# Altium footprint library BOOSTXL-DRV8301.PcbLib: 22 footprints (part 1 of 2)
Each footprint in its own frame and in the unit in brackets; x right, y up, seen from the top. Pads: shape width x height; smd on the part's side, far side on the other; paste and mask are expansions set on the pad; w line width, h text height; cw(c..) or ccw(c..) is an arc to the next point about the centre after c.
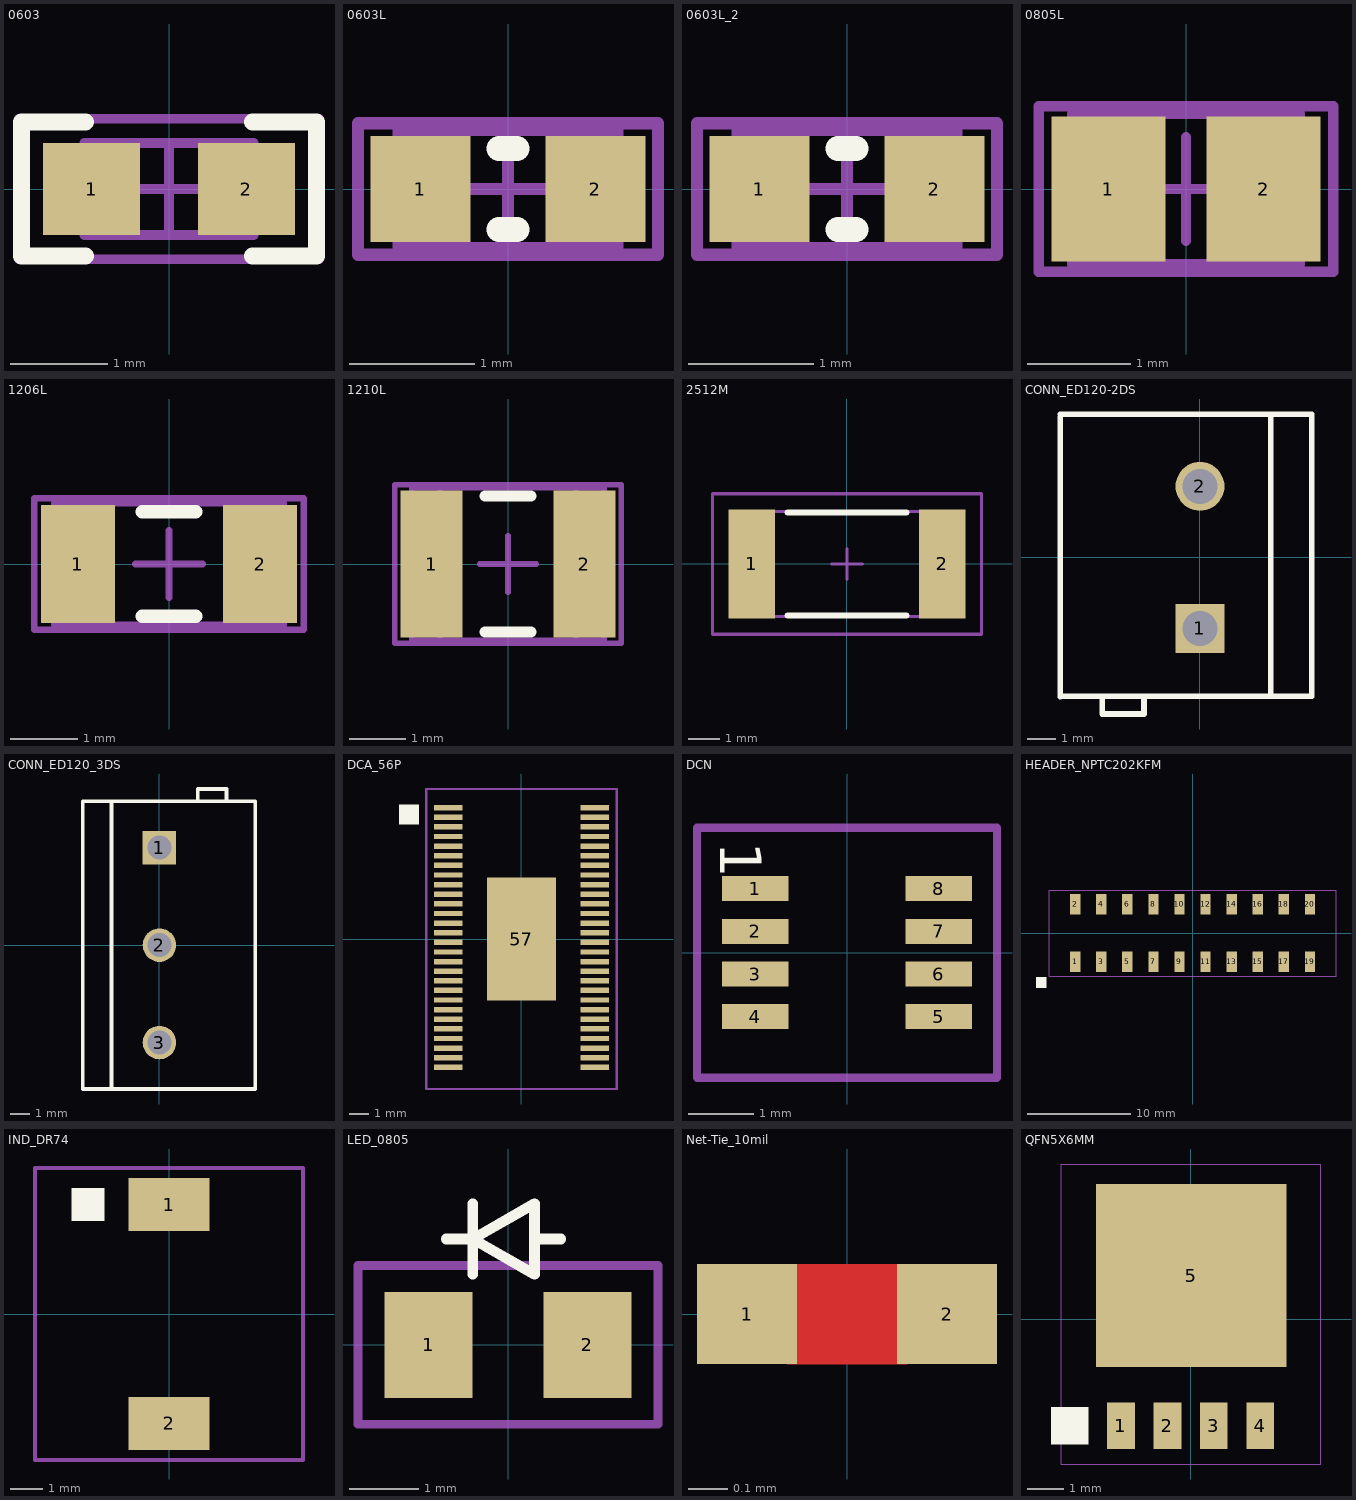
[diagram p0: the footprints below, top view; thin cyan lines are the x and y axes]

## 0603 [mm]
pads (2):
  rect 1x0.95 smd: 1(-0.8,0) 2(0.8,0)
Top Overlay:
  lines w0.178: -0.864,-0.691 -1.524,-0.691 -1.524,0.693 -0.864,0.693 ; 0.864,-0.691 1.524,-0.691 1.524,0.693 0.864,0.693
Mechanical 5:
  lines w0.1: -1.55,-0.725 1.55,-0.725 1.55,0.725 -1.55,0.725 -1.55,-0.725
  text ".Designator" at -1.397,-0.381 h0.76
Mechanical 13:
  lines w0.1: -0.55,-0.475 -0.55,0.475 ; 0.55,-0.475 0.55,0.475 ; -0.875,-0.475 -0.875,0.475 0.875,0.475 0.875,-0.475 -0.875,-0.475
Mechanical 15:
  lines w0.1: -0.475,0 0.475,0 ; 0,-0.475 0,0.475 ; -1.55,-0.725 -1.55,0.725 1.55,0.725 1.55,-0.725 -1.55,-0.725
3D body: height 0.85, standoff 0, extent 0.551,-0.474 0.874,0.474
3D body: height 0.85, standoff 0, extent -0.549,-0.474 0.549,0.474
3D body: height 0.85, standoff 0, extent -0.874,-0.474 -0.551,0.474

## 0603L [mm]
pads (2):
  rect 0.8x0.85 smd: 1(-0.7,0) 2(0.7,0)
Top Overlay:
  lines w0.2: -0.071,-0.325 0.071,-0.325 ; -0.071,0.325 0.071,0.325
Mechanical 5:
  lines w0.1: -1.2,-0.525 1.2,-0.525 1.2,0.525 -1.2,0.525 -1.2,-0.525
  text ".Designator" at -1.05,-0.275 h0.56
Mechanical 13:
  lines w0.1: -0.55,-0.475 -0.55,0.475 ; 0.55,-0.475 0.55,0.475 ; -0.875,-0.475 0.875,-0.475 0.875,0.475 -0.875,0.475 -0.875,-0.475
Mechanical 15:
  lines w0.1: -0.475,0 0.475,0 ; 0,-0.475 0,0.475 ; -1.2,-0.525 -1.2,0.525 1.2,0.525 1.2,-0.525 -1.2,-0.525
3D body: height 0.85, standoff 0, extent -0.874,-0.474 -0.551,0.474
3D body: height 0.85, standoff 0, extent -0.549,-0.474 0.549,0.474
3D body: height 0.85, standoff 0, extent 0.551,-0.474 0.874,0.474

## 0603L_2 [mm]
pads (2):
  rect 0.8x0.85 smd: 1(-0.7,0) 2(0.7,0)
Top Overlay:
  lines w0.2: -0.071,-0.325 0.071,-0.325 ; -0.071,0.325 0.071,0.325
Mechanical 5:
  lines w0.1: -1.2,-0.525 1.2,-0.525 1.2,0.525 -1.2,0.525 -1.2,-0.525
  text ".Designator" at -1.05,-0.275 h0.56
Mechanical 13:
  lines w0.1: -0.55,-0.475 -0.55,0.475 ; 0.55,-0.475 0.55,0.475 ; -0.875,-0.475 0.875,-0.475 0.875,0.475 -0.875,0.475 -0.875,-0.475
Mechanical 15:
  lines w0.1: -0.475,0 0.475,0 ; 0,-0.475 0,0.475 ; -1.2,-0.525 -1.2,0.525 1.2,0.525 1.2,-0.525 -1.2,-0.525
3D body: height 0.85, standoff 0, extent -0.874,-0.474 -0.551,0.474
3D body: height 0.85, standoff 0, extent -0.549,-0.474 0.549,0.474
3D body: height 0.85, standoff 0, extent 0.551,-0.474 0.874,0.474

## 0805L [mm]
pads (2):
  rect 1.1x1.4 smd: 1(-0.75,0) 2(0.75,0)
Mechanical 5:
  lines w0.1: -1.425,-0.8 1.425,-0.8 1.425,0.8 -1.425,0.8 -1.425,-0.8
  text ".Designator" at -1.2,-0.325 h0.64
Mechanical 13:
  lines w0.1: -0.65,-0.725 -0.65,0.725 ; 0.65,-0.725 0.65,0.725 ; -1.1,-0.725 1.1,-0.725 1.1,0.725 -1.1,0.725 -1.1,-0.725
Mechanical 15:
  lines w0.1: -0.5,0 0.5,0 ; 0,-0.5 0,0.5 ; -1.425,-0.8 -1.425,0.8 1.425,0.8 1.425,-0.8 -1.425,-0.8
3D body: height 1.1, standoff 0, extent -1.099,-0.724 -0.651,0.724
3D body: height 1.1, standoff 0, extent -0.649,-0.724 0.649,0.724
3D body: height 1.1, standoff 0, extent 0.651,-0.724 1.099,0.724

## 1206L [mm]
pads (2):
  rect 1.1x1.75 smd: 1(-1.35,0) 2(1.35,0)
Top Overlay:
  lines w0.2: -0.4,-0.775 0.4,-0.775 ; -0.4,0.775 0.4,0.775
Mechanical 5:
  lines w0.1: -1.7,-0.9 -1.7,0.9 1.7,0.9 1.7,-0.9 -1.7,-0.9
  text ".Designator" at -1.475,-0.4 h0.81
Mechanical 13:
  lines w0.1: -1.2,-0.9 -1.2,0.9 ; 1.2,-0.9 1.2,0.9 ; -1.7,-0.9 1.7,-0.9 1.7,0.9 -1.7,0.9 -1.7,-0.9
Mechanical 15:
  lines w0.1: -0.5,0 0.5,0 ; 0,-0.5 0,0.5 ; -2,-0.975 -2,0.975 2,0.975 2,-0.975 -2,-0.975
3D body: height 1.35, standoff 0, extent -1.699,-0.899 -1.201,0.899
3D body: height 1.35, standoff 0, extent -1.199,-0.899 1.199,0.899
3D body: height 1.35, standoff 0, extent 1.201,-0.899 1.699,0.899

## 1210L [mm]
pads (2):
  rect 1.1x2.6 smd: 1(-1.35,0) 2(1.35,0)
Top Overlay:
  lines w0.2: -0.4,-1.2 0.4,-1.2 ; -0.4,1.2 0.4,1.2
Mechanical 5:
  lines w0.1: -1.7,-1.35 -1.7,1.35 1.7,1.35 1.7,-1.35 -1.7,-1.35
  text ".Designator" at -1.4,-0.375 h0.76
Mechanical 13:
  lines w0.1: -1.2,-1.35 -1.2,1.35 ; 1.2,-1.35 1.2,1.35 ; -1.7,-1.35 -1.7,1.35 1.7,1.35 1.7,-1.35 -1.7,-1.35
Mechanical 15:
  lines w0.1: -0.5,0 0.5,0 ; 0,-0.5 0,0.5 ; -2,-1.4 2,-1.4 2,1.4 -2,1.4 -2,-1.4
3D body: height 1.35, standoff 0, extent -1.699,-1.349 -1.201,1.349
3D body: height 1.35, standoff 0, extent -1.199,-1.349 1.199,1.349
3D body: height 1.35, standoff 0, extent 1.201,-1.349 1.699,1.349

## 2512M [mm]
pads (2):
  rect 1.5x3.5 smd: 1(-3.05,0) 2(3.05,0)
Top Overlay:
  lines w0.2: -1.9,-1.65 1.9,-1.65 ; -1.9,1.65 1.9,1.65
Mechanical 5:
  lines w0.1: -3.225,-1.675 3.225,-1.675 3.225,1.675 -3.225,1.675 -3.225,-1.675
  text ".Designator" at -1.85,-0.5 h1.02
Mechanical 13:
  lines w0.1: -2.463,-1.675 -2.463,1.675 ; 2.463,-1.675 2.463,1.675 ; -3.225,-1.675 3.225,-1.675 3.225,1.675 -3.225,1.675 -3.225,-1.675
Mechanical 15:
  lines w0.1: -0.5,0 0.5,0 ; 0,-0.5 0,0.5 ; -4.3,-2.25 4.3,-2.25 4.3,2.25 -4.3,2.25 -4.3,-2.25
3D body: height 0.71, standoff 0, extent -3.224,-1.674 -2.464,1.674
3D body: height 0.71, standoff 0, extent -2.462,-1.674 2.462,1.674
3D body: height 0.71, standoff 0, extent 2.464,-1.674 3.224,1.674

## CONN_ED120-2DS [mm]
pads (2):
  rect 1.75x1.75 hole 1.25: 1(0,-2.54)
  round 1.75 hole 1.25: 2(0,2.54)
Top Overlay:
  lines w0.2: -5,-4.985 -5,5.015 ; -5,-4.96 4,-4.96 ; -5,5.115 4,5.115 4,-4.885 ; -3.5,-4.96 -3.5,-5.6 -2,-5.6 -2,-4.96 ; 2.525,-4.95 2.525,5.05
Mechanical 5:
  lines w0.1: -5,-4.96 4,-4.96 ; -5,-4.885 -5,5.115 4,5.115 4,-4.885 ; -3.5,-4.96 -3.5,-5.6 -2,-5.6 -2,-4.96 ; 2.525,-4.875 2.525,5.125
  text ".Designator" at -2.75,-0.4 h1.02
3D body: height 13, standoff 0, extent -5,-4.985 4,5.115
3D body: height 13.1, standoff -2.5, extent -0.496,-3.039 0.5,-2.041
3D body: height 13.1, standoff -2.5, extent -0.496,2.041 0.5,3.039
3D body: height 5.7, standoff 4.3, extent -0.85,1.846 4.15,3.24
3D body: height 5.7, standoff 4.3, extent -0.875,-3.204 4.125,-1.81
3D body: height 13, standoff 0, extent -3.5,-5.6 -2,-4.925

## CONN_ED120_3DS [mm]
pads (3):
  rect 1.75x1.75 hole 1.25: 1(0,5.08)
  round 1.75 hole 1.25: 2(0,0) 3(0,-5.08)
Top Overlay:
  lines w0.2: -2.5,-7.5 -2.5,7.5 ; 2,7.5 2,8.14 3.5,8.14 3.5,7.5 ; -4,-7.5 5,-7.5 5,7.5 -4,7.5 -4,-7.5
Mechanical 5:
  lines w0.1: -2.5,-7.5 -2.5,7.5 ; 2,7.5 2,8.14 3.5,8.14 3.5,7.5 ; -4,-7.5 -4,7.5 5,7.5 5,-7.5 -4,-7.5
  text ".Designator" at -1.975,1.925 h1.02
3D body: height 12.9, standoff -2.5, extent -0.5,4.581 0.496,5.579
3D body: height 12.9, standoff -2.5, extent -0.5,-0.499 0.496,0.499
3D body: height 6, standoff 4, extent -4.1,-1.054 0.9,0.938
3D body: height 13.1, standoff 12.5, extent -1,-0.998 0.992,0.998
3D body: height 13.1, standoff 12.5, extent -1,4.082 0.992,6.078
3D body: height 6, standoff 4, extent -4.1,4.046 0.9,6.038
3D body: height 13, standoff 0, extent 2,7.54 3.5,8.14
3D body: height 13.1, standoff 12.5, extent -1,-6.071 0.992,-4.075
3D body: height 6, standoff 4, extent -4.125,-6.067 0.875,-4.075
3D body: height 12.9, standoff -2.5, extent -0.5,-5.459 0.496,-4.461
3D body: height 13, standoff 0, extent -4.05,-7.55 5.05,7.55

## DCA_56P [mil]
pads (57):
  rect 58x11 smd mask+2: 1(-150.08,268.98) 2(-150.08,249.3) 3(-150.08,229.61) 4(-150.08,209.91) 5(-150.08,190.21) 6(-150.08,170.51) 7(-150.08,150.81) 8(-150.08,131.11) 9(-150.08,111.41) 10(-150.08,91.71) 11(-150.08,72.01) 12(-150.08,52.31) 13(-150.08,32.61) 14(-150.08,12.91) 15(-150.08,-6.79) 16(-150.08,-26.49) 17(-150.08,-46.19) 18(-150.08,-65.89) 19(-150.08,-85.59) 20(-150.08,-105.29) 21(-150.08,-124.99) 22(-150.08,-144.69) 23(-150.08,-164.39) 24(-150.08,-184.09) 25(-150.08,-203.79) 26(-150.08,-223.49) 27(-150.08,-243.17) 28(-150.08,-262.86) 29(149.92,-262.86) 30(149.92,-243.17) 31(149.92,-223.49) 32(149.92,-203.79) 33(149.92,-184.09) 34(149.92,-164.39) 35(149.92,-144.69) 36(149.92,-124.99) 37(149.92,-105.29) 38(149.92,-85.59) 39(149.92,-65.89) 40(149.92,-46.19) 41(149.92,-26.49) 42(149.92,-6.79) 43(149.92,12.91) 44(149.92,32.61) 45(149.92,52.31) 46(149.92,72.01) 47(149.92,91.71) 48(149.92,111.41) 49(149.92,131.11) 50(149.92,150.81) 51(149.92,170.51) 52(149.92,190.21) 53(149.92,209.91) 54(149.92,229.61) 55(149.92,249.3) 56(149.92,268.98)
  rect 141.73x251.97 smd: 57(0.02,0.01)
Top Overlay:
  region: -250,235 -210,235 -210,275 -250,275
Mechanical 5:
  lines w5: -195.08,-307.09 -195.08,307.09 ; -195,-307.05 195,-307.05 ; -195,307.13 195,307.13 ; 195.08,-307.09 195.08,307.09
  text ".Designator" at -73,-20 h40
  text "*" at -109.45,295.67 h30

## DCN [mil]
pads (8):
  rect 40x15 smd: 1(-55,38.4) 2(-55,12.8) 3(-55,-12.8) 4(-55,-38.4) 5(55,-38.4) 6(55,-12.8) 7(55,12.8) 8(55,38.4)
Top Overlay:
  text "1" at -75.94,66.46 h25
Mechanical 5:
  lines w5: -90,-75 90,-75 90,75 -90,75 -90,-75
  text ".Designator" at -75,-20 h40
  text "*" at -74.94,66.46 h25

## HEADER_NPTC202KFM [mm]
pads (20):
  rect 1x2 smd paste+0.033 mask+0.041: 1(-11.43,-2.807) 2(-11.43,2.807) 3(-8.89,-2.807) 4(-8.89,2.807) 5(-6.35,-2.807) 6(-6.35,2.807) 7(-3.81,-2.807) 8(-3.81,2.807) 9(-1.27,-2.807) 10(-1.27,2.807) 11(1.27,-2.807) 12(1.27,2.807) 13(3.81,-2.807) 14(3.81,2.807) 15(6.35,-2.807) 16(6.35,2.807) 17(8.89,-2.807) 18(8.89,2.807) 19(11.43,-2.807) 20(11.43,2.807)
Top Overlay:
  region: -15.24,-4.318 -15.24,-5.334 -14.224,-5.334 -14.224,-4.318
Mechanical 5:
  lines w0.025: -13.97,-4.191 13.97,-4.191 13.97,4.191 -13.97,4.191 -13.97,-4.191
  text "J4" at 4.275,-0.864 h0.76

## IND_DR74 [mil]
pads (2):
  rect 100x65 smd: 1(0,135) 2(0,-135)
Top Overlay:
  region: -120,115 -80,115 -80,155 -120,155
Mechanical 5:
  lines w5: -165,-180 -165,180 165,180 165,-180 -165,-180
  text ".Designator" at -73,-20 h40
  text "*" at -137.57,131 h30

## LED_0805 [mil]
pads (2):
  rect 50x60 smd: 1(-45,0) 2(45,0)
Top Overlay:
  lines w6: -35,60 -30,60 -20,60 ; -20,40 -20,80 ; 15,60 25,60 30,60 ; -20,60 15,40 15,80 -20,60
Mechanical 5:
  lines w5: -35,60 -30,60 -20,60 ; -20,40 -20,80 ; 15,60 25,60 30,60 ; -20,60 15,40 15,80 -20,60 ; -85,-45 -85,45 85,45 85,-45 -85,-45
  text ".Designator" at -75,-20 h40

## Net-Tie_10mil [mil]
pads (2):
  rect 10x10 smd paste-5 mask-5: 1(-10,0) 2(10,0)
Top Layer:
  region: -6,5 6,5 6,-5 -6,-5

## QFN5X6MM [mil]
pads (5):
  rect 30x50 smd paste+1.5 mask+1.5: 1(-75,-115) 2(-25,-115) 3(25,-115) 4(75,-115)
  rect 204.72x196.85 smd paste+0.64 mask+0.64: 5(0.79,46.85)
Top Overlay:
  region: -110,-135 -110,-95 -150,-95 -150,-135
Mechanical 5:
  lines w1.1: -140,-156 140,-156 ; -139.37,-155.91 -139.37,166.93 140.16,166.93 140.16,-155.91
  text "Q3" at -29.12,-20.62 h30